# Altium integrated library LDL112PU10R.IntLib: 1 symbol
Pins are listed as number, name and electrical type; pins without a type are passive.

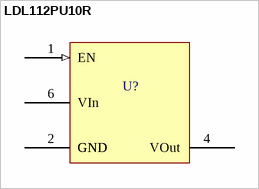
[diagram p0: symbol LDL112PU10R]

## LDL112PU10R
designator U?
footprint LDL112PU10R
pins: 1 EN (in), 2 GND (power), 4 VOut (power), 6 VIn (power), 7 GND (power)